# Altium footprint library SparkFun-Passives.PCBLIB: 102 footprints (part 2 of 7)
Each footprint in its own frame and in the unit in brackets; x right, y up, seen from the top. Pads: shape width x height; smd on the part's side, far side on the other; paste and mask are expansions set on the pad; w line width, h text height; cw(c..) or ccw(c..) is an arc to the next point about the centre after c.
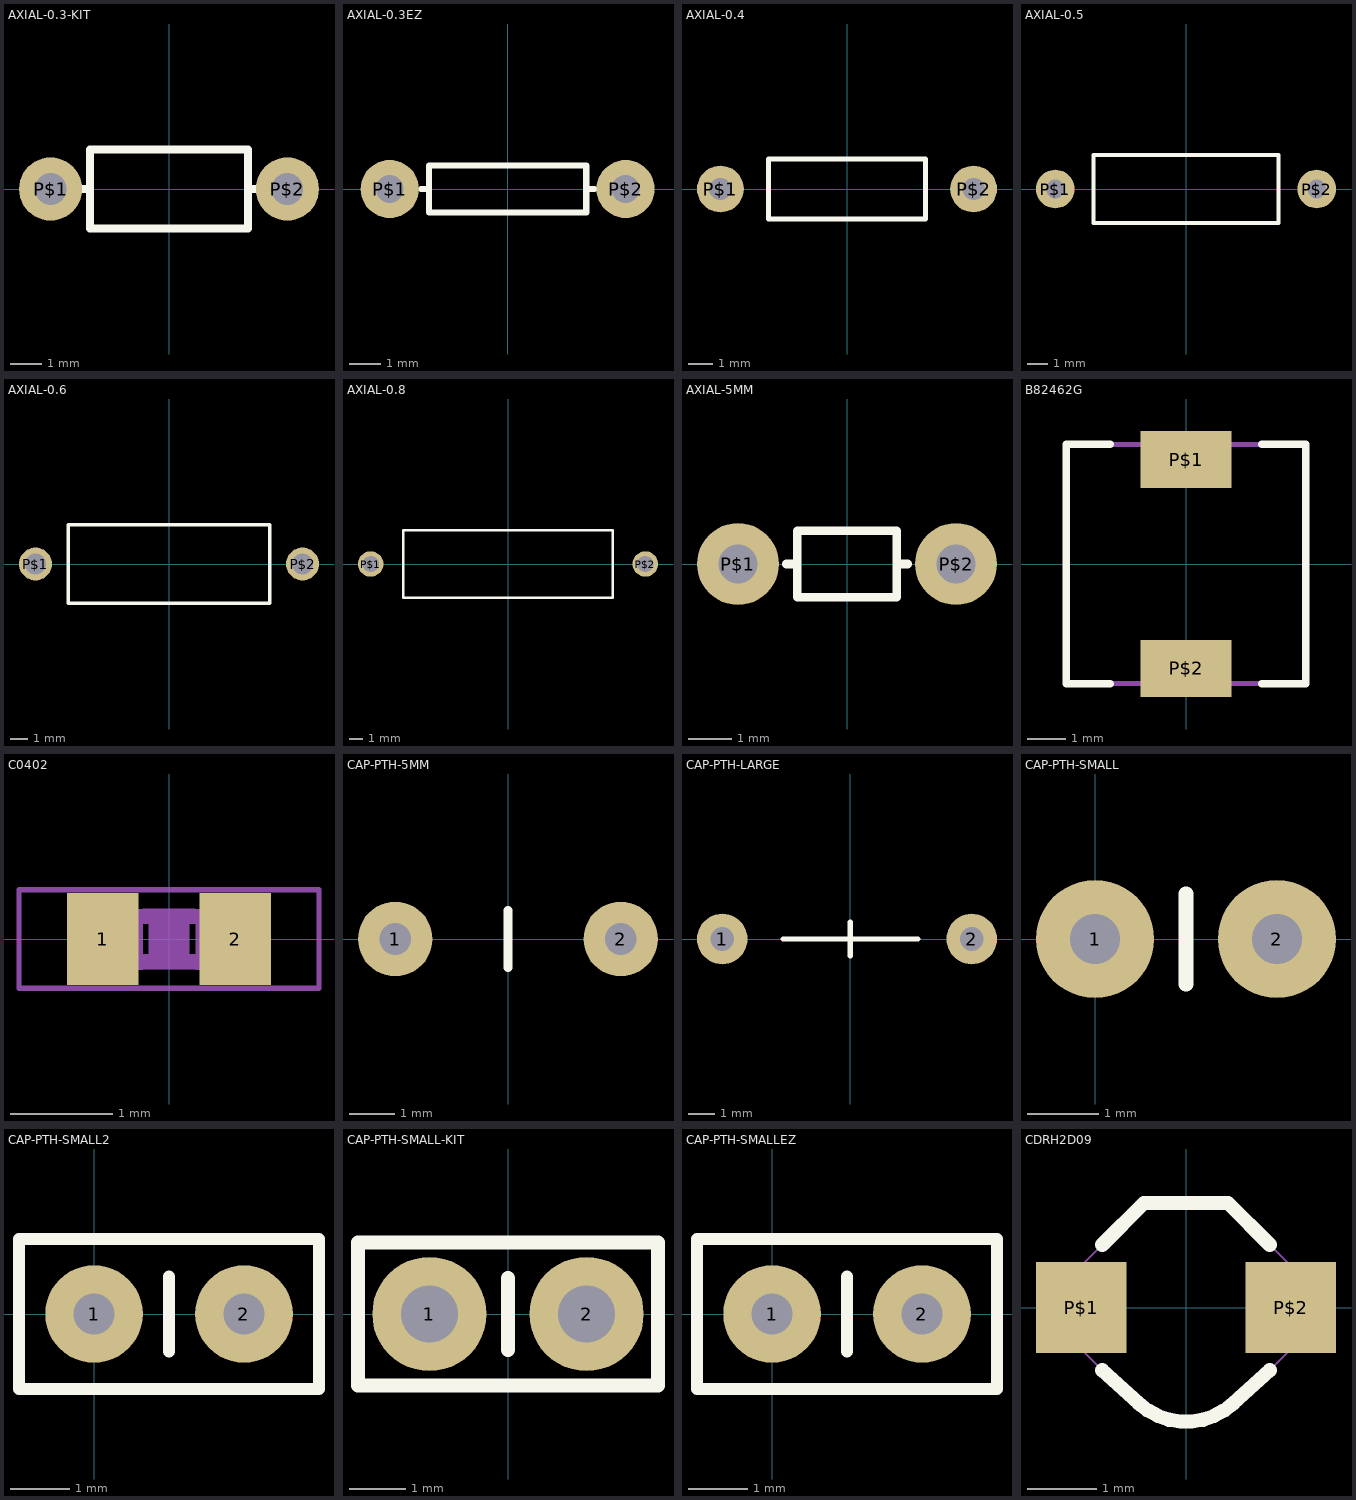
[diagram p1: the footprints below, top view; thin cyan lines are the x and y axes]

## AXIAL-0.3-KIT [mil]
pads (2):
  round 80 hole 40: P$1(-150,0) P$2(150,0)
Top Overlay:
  lines w10: -110,0 -100,0 ; 110,0 100,0 ; -100,0 -100,-50 100,-50 100,0 ; -100,0 -100,50 100,50 100,0
Top Solder:
  region: 0,0 10,0 10,10 0,10
  region: 0,0 10,0 10,10 0,10
Bottom Solder:
  region: 0,0 10,0 10,10 0,10
  region: 0,0 10,0 10,10 0,10

## AXIAL-0.3EZ [mil]
pads (2):
  round 74 hole 35.43: P$1(-150,0) P$2(150,0)
Top Overlay:
  lines w8: -110,0 -100,0 ; 110,0 100,0 ; -100,0 -100,-30 100,-30 100,0 ; -100,0 -100,30 100,30 100,0
Top Solder:
  circle w0: c-150,0 r20
  circle w0: c150,0 r20.62
Bottom Solder:
  circle w0: c-150,0 r40.31
  circle w0: c150,0 r41.23

## AXIAL-0.4 [mil]
pads (2):
  round 74 hole 35.43: P$1(-200,0) P$2(200,0)
Top Overlay:
  lines w8: -124.02,-47.24 -124.02,47.24 124.02,47.24 124.02,-47.24 -124.02,-47.24

## AXIAL-0.5 [mil]
pads (2):
  round 74 hole 35.43: P$1(-250,0) P$2(250,0)
Top Overlay:
  lines w8: -177.17,-64.96 -177.17,64.96 177.17,64.96 177.17,-64.96 -177.17,-64.96

## AXIAL-0.6 [mil]
pads (2):
  round 74 hole 47.24: P$1(-300,0) P$2(300,0)
Top Overlay:
  lines w8: -226.38,-88.58 -226.38,88.58 226.38,88.58 226.38,-88.58 -226.38,-88.58

## AXIAL-0.8 [mil]
pads (2):
  round 74 hole 47.24: P$1(-400,0) P$2(400,0)
Top Overlay:
  lines w8: -305.12,-98.43 -305.12,98.43 305.12,98.43 305.12,-98.43 -305.12,-98.43

## AXIAL-5MM [mil]
pads (2):
  round 74 hole 35.43: P$1(-98.43,0) P$2(98.43,0)
Top Overlay:
  lines w8: -54.88,0 -44.88,0 ; 54.88,0 44.88,0 ; -44.88,0 -44.88,-30 44.88,-30 44.88,0 ; -44.88,0 -44.88,30 44.88,30 44.88,0

## B82462G [mil]
pads (2):
  rect 94.49x59.06 smd: P$1(0,108.27) P$2(0,-108.27)
Top Overlay:
  lines w8: -78.74,-124.02 -124.02,-124.02 -124.02,124.02 -78.74,124.02 ; 78.74,-124.02 124.02,-124.02 124.02,124.02 78.74,124.02
Mechanical 16:
  lines w5: -124.02,-124.02 -124.02,124.02 124.02,124.02 124.02,-124.02 -124.02,-124.02

## C0402 [mm]
pads (2):
  rect 0.7x0.9 smd: 1(-0.65,0) 2(0.65,0)
Mechanical 6:
  rectangle: -0.2,-0.3 0.2,0.3
Mechanical 16:
  rectangle: -0.554,-0.305 -0.254,0.295
  rectangle: 0.259,-0.305 0.559,0.295
  lines w0.152: -0.245,-0.224 0.245,-0.224 ; -0.245,0.224 0.245,0.224
Mechanical 27:
  lines w0.051: -1.473,-0.483 1.473,-0.483 1.473,0.483 -1.473,0.483 -1.473,-0.483

## CAP-PTH-5MM [mil]
pads (2):
  round 65 hole 27.56: 1(-98.43,0) 2(98.43,0)
Top Overlay:
  lines w8: 0,-25 0,25

## CAP-PTH-LARGE [mil]
pads (2):
  round 75 hole 35.43: 1(-190,0) 2(180,0)
Top Overlay:
  lines w8: -100,0 0,0 ; 0,-25 0,0 ; 0,25 0,0 ; 100,0 0,0

## CAP-PTH-SMALL [mil]
pads (2):
  round 65 hole 27.56: 1(0,0) 2(100,0)
Top Overlay:
  lines w8: 50,-25 50,25

## CAP-PTH-SMALL2 [mil]
pads (2):
  round 65 hole 27.56: 1(0,0) 2(100,0)
Top Overlay:
  lines w8: 50,-25 50,25 ; -50,-50 150,-50 150,50 -50,50 -50,-50

## CAP-PTH-SMALL-KIT [mil]
pads (2):
  round 80 hole 40: 1(-55,0) 2(55,0)
Top Overlay:
  lines w10: 0,-25 0,25 ; -105,-50 105,-50 105,50 -105,50 -105,-50
Top Solder:
  region: 0,0 10,0 10,10 0,10
  region: 0,0 10,0 10,10 0,10
Bottom Solder:
  region: 0,0 10,0 10,10 0,10
  region: 0,0 10,0 10,10 0,10

## CAP-PTH-SMALLEZ [mil]
pads (2):
  round 65 hole 27.56: 1(0,0) 2(100,0)
Top Overlay:
  lines w8: 50,-25 50,25 ; -50,-50 150,-50 150,50 -50,50 -50,-50
Top Solder:
  circle w0: c0,0 r15.81
  circle w0: c100,0 r15.81
Bottom Solder:
  circle w0: c0,0 r35.36
  circle w0: c100,0 r36.06

## CDRH2D09 [mil]
pads (2):
  rect 51.18x51.18 smd: P$1(-59.06,0) P$2(59.06,0)
Top Overlay:
  lines w8: -47.24,-35.43 -26.7,-54.09 ccw(c0,-25.17) 26.7,-54.09 47.24,-35.43 ; -47.24,35.43 -23.62,59.06 23.62,59.06 47.24,35.43
Mechanical 16:
  lines w1.18: -59.06,-23.62 -27.84,-54.84 ccw(c0,-27) 27.84,-54.84 59.06,-23.62 59.06,23.62 23.62,59.06 -23.62,59.06 -59.06,23.62 -59.06,-23.62